# Altium footprint library BATTERIES.PcbLib: 2 footprints
Each footprint in its own frame and in the unit in brackets; x right, y up, seen from the top. Pads: shape width x height; smd on the part's side, far side on the other; paste and mask are expansions set on the pad; w line width, h text height; cw(c..) or ccw(c..) is an arc to the next point about the centre after c.
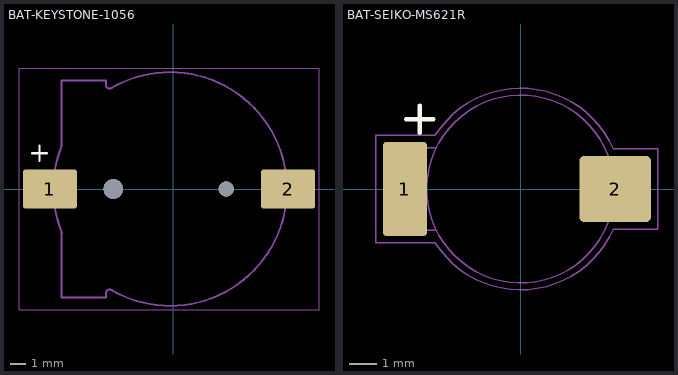
[diagram p0: the footprints below, top view; thin cyan lines are the x and y axes]

## BAT-KEYSTONE-1056 [mm] "1220 BATTERY HOLDER"
height 3.99
pads (4):
  rrect15% 3.6x2.6 smd: 1(-8.18,0) 2(7.61,0)
  round 1.3 hole 1.3 unplated: ""(-3.98,0)
  round 1 hole 1 unplated: ""(3.51,0)
Top Overlay:
  lines w0.15: -9.375,2.375 -8.375,2.375 ; -8.875,1.875 -8.875,2.875
Mechanical 13:
  lines w0.127: -7.41,-2.85 -7.41,-7.2 -4.46,-7.2 -4.46,-6.88 ; -7.41,2.85 -7.41,7.2 -4.46,7.2 -4.46,6.88 ; -7.393,-2.893 cw(c-0.231,0) -7.393,2.893 ; -4.46,-6.881 cw(c-4.255,-6.87) -4.266,-6.665 cw(c-4.248,-7.014) -4.084,-6.705 ; -4.46,6.881 ccw(c-4.255,6.87) -4.266,6.665 ccw(c-4.248,7.014) -4.084,6.705 ; -4.078,-6.709 ccw(c-0.212,-0.013) -0.212,-7.745 ; -4.078,6.709 cw(c-0.212,0.013) -0.212,7.745 ; -0.21,-7.745 ccw(c-0.21,0) -0.21,7.745
Mechanical 15:
  lines w0.05: -10.23,-8 9.66,-8 9.66,8 -10.23,8 -10.23,-8
3D body "step_temp.STEP": height 4.19, standoff -0.97, extent -9.458,-7.626 9.342,7.507

## BAT-SEIKO-MS621R [mm]
pads (2):
  rrect15% 1.6x3.4 smd mask+0.05: 1(-4.187,0)
  rrect15% 2.6x2.4 smd mask+0.05: 2(3.425,0)
Top Overlay:
  lines w0.15: -4.15,2.525 -3.15,2.525 ; -3.65,2.025 -3.65,2.525 ; -3.65,3.025 -3.65,2.525 ; -3.65,2.525 -3.65,2.525
Top Courtyard:
  lines w0.05: -3.084,-1.956 ccw(c0,0) 3.347,-1.46 ; -3.084,-1.95 -5.25,-1.95 -5.25,0 -5.25,1.95 -3.084,1.95 ; -3.084,1.956 cw(c0,0) 3.347,1.46 ; 3.347,-1.45 4.975,-1.45 4.975,0 4.975,1.45 3.347,1.45
Top Assembly:
  circle w0.05: c0,0 r3.398
  lines w0.05: -3.05,-1.5 -4.7,-1.5 -4.7,0 -4.7,1.5 -3.05,1.5 ; 3.275,-0.95 4.5,-0.95 4.5,0 4.5,0.95 3.275,0.95
3D body "MS621R-II27E.stp": height 2.57, standoff 0.04, extent -4.7,-3.397 4.5,3.397